# Altium footprint library Wireless_Security_Detector.PcbLib: 36 footprints (part 1 of 3)
Each footprint in its own frame and in the unit in brackets; x right, y up, seen from the top. Pads: shape width x height; smd on the part's side, far side on the other; paste and mask are expansions set on the pad; w line width, h text height; cw(c..) or ccw(c..) is an arc to the next point about the centre after c.
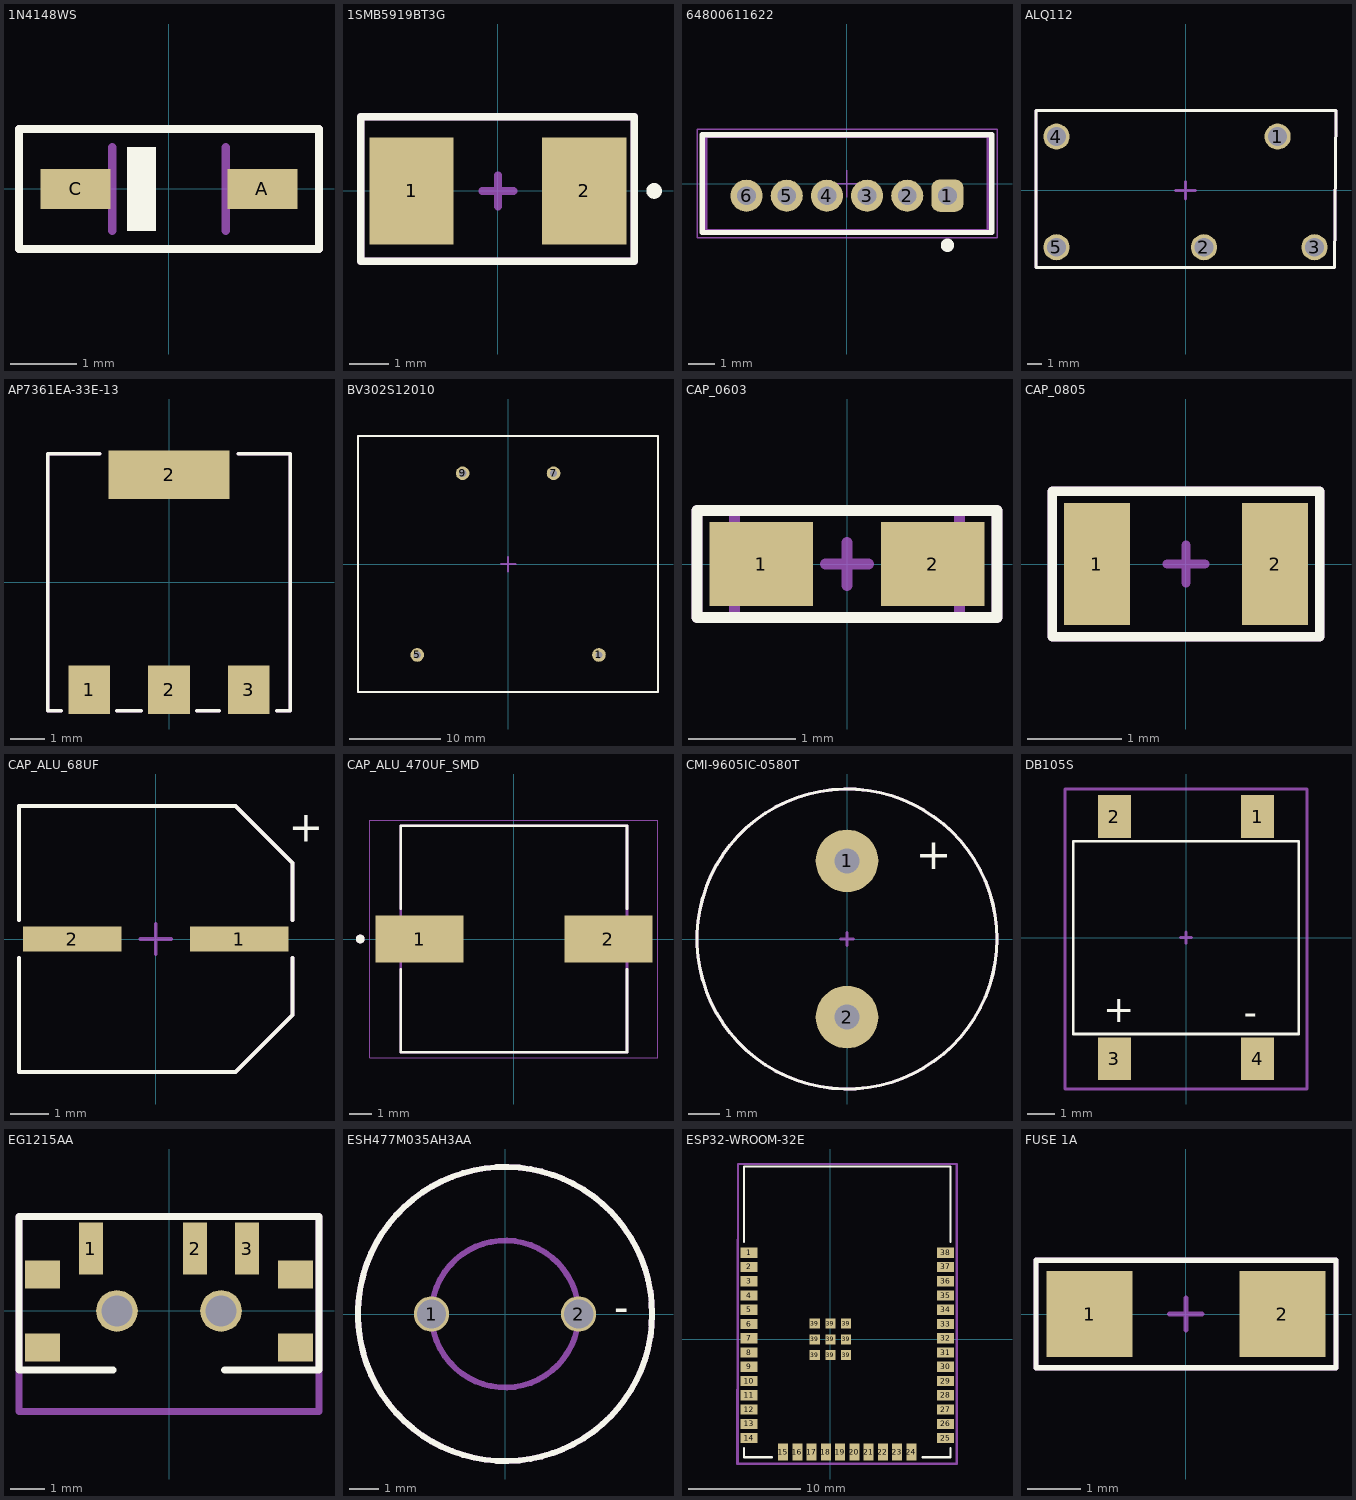
[diagram p0: the footprints below, top view; thin cyan lines are the x and y axes]

## 1N4148WS [mm]
pads (2):
  rect 1.05x0.6 smd: A(1.4,0) C(-1.4,0)
Top Overlay:
  region: -0.2,-0.625 -0.625,-0.625 -0.625,0.625 -0.2,0.625
  lines w0.127: -2.25,-0.9 -2.25,0.9 2.25,0.9 2.25,-0.9 -2.25,-0.9
Top 3D Body:
  lines w0.127: -2.25,-0.9 -2.25,0.9 2.25,0.9 2.25,-0.9 -2.25,-0.9
Top Designator:
  lines w0.127: -2.25,-0.9 -2.25,0.9 2.25,0.9 2.25,-0.9 -2.25,-0.9
  text ".Designator" at 0.433,-0.7 h0.8
Mechanical 13:
  lines w0.127: -0.85,-0.625 -0.85,0.625 ; 0.85,-0.625 0.85,0.625
3D body "step_temp.STEP": height 1.1, standoff 0.1, extent -1.25,-0.625 1.25,0.625

## 1SMB5919BT3G [mm]
pads (2):
  rect 2.159x2.743 smd mask+0.05: 1(-2.21,0) 2(2.21,0)
Top Overlay:
  circle w0.2: c4,0 r0.1
  lines w0.2: -3.51,-1.8 -3.51,1.9 3.49,1.9 3.49,-1.8 -3.51,-1.8
Top 3D Body:
  lines w0.2: -3.51,-1.8 -3.51,1.9 3.49,1.9 3.49,-1.8 -3.51,-1.8
Top Component Center:
  lines w0.2: -0.4,0 0.4,0 ; 0,-0.4 0,0.4
Top Designator:
  lines w0.2: -3.51,-1.8 -3.51,1.9 3.49,1.9 3.49,-1.8 -3.51,-1.8
  text ".Designator" at 0.333,-0.9 h0.8
3D body "1SMB5919BT3G.STEP": height 2.39, standoff -0.08, extent -2.73,-1.66 2.71,1.9

## 64800611622 [mm]
pads (6):
  rrect50% 1.2x1.2 hole 0.7: 1(3.75,-0.45)
  round 1.2 hole 0.7: 2(2.25,-0.45) 3(0.75,-0.45) 4(-0.75,-0.45) 5(-2.25,-0.45) 6(-3.75,-0.45)
Top Overlay:
  circle w0.25: c3.75,-2.3 r0.125
  lines w0.2: -5.4,-1.825 -5.4,1.825 5.4,1.825 5.4,-1.825 -5.4,-1.825
Top Component Center:
  lines w0.05: -0.5,0 0.5,0 ; 0,-0.5 0,0.5
Top Designator:
  text ".Designator" at -4.698,0.367 h1
Top Courtyard:
  lines w0.05: -5.6,-2.025 5.6,-2.025 5.6,2.025 -5.6,2.025 -5.6,-2.025
Top Component Outline:
  lines w0.1: -5.25,-1.75 5.25,-1.75 5.25,1.75 -5.25,1.75 -5.25,-1.75
3D body "64800611622.stp": height 4.53, standoff -2.67, extent -5.25,-1.75 5.25,1.75

## ALQ112 [mm]
pads (5):
  round 1.8 hole 1.3 mask+0.05: 1(6.35,3.71) 2(1.27,-3.91) 3(8.89,-3.91) 4(-8.89,3.71) 5(-8.89,-3.91)
Top Overlay:
  lines w0.2: -10.3,-5.3 -10.3,5.5 10.369,5.5 10.269,-5.3 -10.3,-5.3
Top 3D Body:
  lines w0.2: -10.3,-5.3 10.269,-5.3 10.369,5.5 -10.3,5.5 -10.3,-5.3
Top Component Center:
  lines w0.2: -0.7,0 0.7,0 ; 0,-0.6 0,0.6 ; -10.3,-5.3 10.269,-5.3 10.369,5.5 -10.3,5.5 -10.3,-5.3
Top Designator:
  lines w0.2: -10.3,-5.3 10.269,-5.3 10.369,5.5 -10.3,5.5 -10.3,-5.3
  text ".Designator" at -1.6,-0.233 h0.8
3D body "ALQ112--3DModel-STEP-56544.STEP": height 16, standoff -3.8, extent -10,-5 10,5

## AP7361EA-33E-13 [mm]
pads (4):
  rect 1.2x1.4 smd mask+0.05: 1(-2.3,-3.1) 2(0,-3.1) 3(2.3,-3.1)
  rect 3.5x1.4 smd mask+0.05: 2(0,3.1)
Top Overlay:
  lines w0.1: -3.1,-3.7 -3.5,-3.7 -3.5,3.7 -2,3.7 ; -1.5,-3.7 -0.8,-3.7 ; 0.8,-3.7 1.45,-3.7 ; 2,3.7 3.5,3.7 3.5,-3.7 3.1,-3.7
Top 3D Body:
  lines w0.1: -3.1,-3.7 -3.5,-3.7 -3.5,3.7 -2,3.7 ; -1.5,-3.7 -0.8,-3.7 ; 0.8,-3.7 1.45,-3.7 ; 2,3.7 3.5,3.7 3.5,-3.7 3.1,-3.7
Top Component Center:
  lines w0.1: -3.1,-3.7 -3.5,-3.7 -3.5,3.7 -2,3.7 ; -1.5,-3.7 -0.8,-3.7 ; 0.8,-3.7 1.45,-3.7 ; 2,3.7 3.5,3.7 3.5,-3.7 3.1,-3.7
Top Designator:
  lines w0.1: -3.1,-3.7 -3.5,-3.7 -3.5,3.7 -2,3.7 ; -1.5,-3.7 -0.8,-3.7 ; 0.8,-3.7 1.45,-3.7 ; 2,3.7 3.5,3.7 3.5,-3.7 3.1,-3.7
  text ".Designator" at -1.6,-0.733 h0.8
3D body "CircuitWorks-SOT-223.step": height 1.65, standoff -0.03, extent -3.25,-3.48 3.25,3.48

## BV302S12010 [mm]
pads (4):
  round 1.5 hole 0.8 mask+0.05: 1(10,-10) 5(-10,-10) 7(5,10) 9(-5,10)
Top Overlay:
  lines w0.2: -16.522,-14.078 -16.522,14.1 16.5,14.1 16.5,-14.078 -16.522,-14.078
Top 3D Body:
  lines w0.2: -16.522,-14.078 16.5,-14.078 16.5,14.1 -16.522,14.1 -16.522,-14.078
Top Component Center:
  lines w0.2: -0.8,0 0.8,0 ; 0,-0.8 0,0.8 ; -16.522,-14.078 -16.522,14.1 16.5,14.1 16.5,-14.078 -16.522,-14.078
Top Designator:
  lines w0.2: -16.522,-14.078 16.5,-14.078 16.5,14.1 -16.522,14.1 -16.522,-14.078
  text ".Designator" at -2.9,-2.133 h0.8
3D body "User Library-Hahn BV EI 302 2902.step": height 21.8, standoff -4.5, extent -16.25,-13.75 16.25,13.75

## CAP_0603 [mil]
pads (2):
  rect 38x31 smd mask+1.97: 1(-31.5,0) 2(31.5,0)
Top Overlay:
  lines w3.94: -55.12,-19.68 55.12,-19.68 55.12,19.68 -55.12,19.68 -55.12,-19.68
Top 3D Body:
  lines w3.94: -41.34,-19.68 -41.34,19.68 41.34,19.68 41.34,-19.68 -41.34,-19.68
Top Component Center:
  lines w3.94: -7.87,0 7.87,0 ; 0,-7.87 0,7.87 ; -55.12,-19.68 -55.12,19.68 55.12,19.68 55.12,-19.68 -55.12,-19.68
Top Designator:
  lines w3.94: -55.12,-19.68 -55.12,19.68 55.12,19.68 55.12,-19.68 -55.12,-19.68
  text ".Designator" at 6.56,-98.39 h19.68
3D body "CAPC0603.STEP": height 31.5, standoff 0, extent -41.35,-19.68 41.35,20.82

## CAP_0805 [mm]
pads (2):
  rect 0.7x1.3 smd mask+0.05: 1(-0.95,0) 2(0.95,0)
Top Overlay:
  lines w0.1: -1.425,-0.775 1.425,-0.775 1.425,0.775 -1.425,0.775 -1.425,-0.775
Top 3D Body:
  lines w0.1: -1.425,-0.775 1.425,-0.775 1.425,0.775 -1.425,0.775 -1.425,-0.775
Top Component Center:
  lines w0.1: -0.2,0 0.2,0 ; 0,-0.2 0,0.2
Top Designator:
  lines w0.1: -1.425,-0.775 1.425,-0.775 1.425,0.775 -1.425,0.775 -1.425,-0.775
  text ".Designator" at 0.233,-0.6 h0.5
3D body "GCM2165C2A151JA16D.STEP": height 1.22, standoff -0.03, extent -1,-0.725 1,0.725

## CAP_ALU_68UF [mm]
pads (2):
  rect 2.6x0.65 smd mask+0.05: 1(2.2,0) 2(-2.2,0)
Top Overlay:
  lines w0.1: -3.6,-0.5 -3.6,-3.5 2.1,-3.5 3.6,-2 3.6,-0.5 ; -3.6,0.5 -3.6,3.5 2.1,3.5 3.6,2 3.6,0.5
  text "+" at 3.5,2.567 h0.8
Top 3D Body:
  lines w0.1: -3.6,-0.5 -3.6,-3.5 2.1,-3.5 3.6,-2 3.6,-0.5 ; -3.6,0.5 -3.6,3.5 2.1,3.5 3.6,2 3.6,0.5
Top Component Center:
  lines w0.1: -3.6,-0.5 -3.6,-3.5 2.1,-3.5 3.6,-2 3.6,-0.5 ; -3.6,0.5 -3.6,3.5 2.1,3.5 3.6,2 3.6,0.5 ; -0.4,0 0.4,0 ; 0,-0.4 0,0.4
Top Designator:
  lines w0.1: -3.6,-0.5 -3.6,-3.5 2.1,-3.5 3.6,-2 3.6,-0.5 ; -3.6,0.5 -3.6,3.5 2.1,3.5 3.6,2 3.6,0.5
  text ".Designator" at -1,-1.833 h0.8
3D body "EEV686M035A9HAA.step": height 7.71, standoff -0.3, extent -3.8,-3.4 3.8,3.4

## CAP_ALU_470UF_SMD [mm]
pads (2):
  rect 4.01x2.12 smd: 1(-4.3,0) 2(4.3,0)
Top Overlay:
  circle w0.2: c-7,0 r0.1
  lines w0.127: -5.15,-1.38 -5.15,-5.15 5.15,-5.15 5.15,-1.38 ; -5.15,1.38 -5.15,5.15 5.15,5.15 5.15,1.38
Top Designator:
  lines w0.05: -6.555,-5.4 6.555,-5.4 6.555,5.4 -6.555,5.4 -6.555,-5.4
  text ".Designator" at -1,-0.167 h0.4
Mechanical 13:
  circle w0.2: c-7,0 r0.1
  lines w0.127: -5.15,-5.15 -5.15,5.15 5.15,5.15 5.15,-5.15 -5.15,-5.15
3D body "CAP_PC_10X12P7_NCH.step": height 12.75, standoff 0, extent -5.601,-5.156 5.601,5.156

## CMI-9605IC-0580T [mm]
pads (2):
  round 2 hole 0.8 mask+0.05: 1(0,2.5) 2(0,-2.5)
Top Overlay:
  circle w0.1: c0,0 r4.8
  text "+" at 2.2,2.233 h1
Top Component Center:
  circle w0.1: c0,0 r4.8
  lines w0.1: -0.2,0 0.2,0 ; 0,-0.2 0,0.2
Top Designator:
  circle w0.1: c0,0 r4.8
  text ".Designator" at -2.4,-0.167 h1
3D body: height 5.1, standoff 0.1, extent -4.8,-4.8 4.8,4.8
3D body: height 5.16, standoff 5.11, extent -4,-4 4,4
3D body: height 5.16, standoff 5.11, extent -2,2 2,6
3D body: height 1.65, standoff -3.85, extent -0.3,-2.8 0.3,-2.2
3D body: height 0.15, standoff -5.35, extent -0.3,2.2 0.3,2.8

## DB105S [mm]
pads (4):
  rect 1.2x1.55 smd mask+0.05: 1(2.605,4.4) 2(-2.605,4.4) 3(-2.605,-4.4) 4(2.605,-4.4)
Top Overlay:
  lines w0.1: -4.1,-3.5 -4.1,3.5 4.1,3.5 4.1,-3.5 -4.1,-3.5
  text "+" at -3,-3.067 h1
  text "-" at 2.1,-3.2 h1
Top 3D Body:
  lines w0.1: -4.4,-5.5 -4.4,5.4 4.4,5.4 4.4,-5.5 -4.4,-5.5
Top Component Center:
  lines w0.1: -0.2,0 0.2,0 ; 0,-0.2 0,0.2 ; -4.4,-5.5 -4.4,5.4 ; -4.4,-5.5 4.4,-5.5 ; -4.4,-5.5 4.4,-5.5 ; -4.4,-5.5 -4.4,5.4 ; -4.4,5.4 4.4,5.4 ; -4.4,5.4 4.4,5.4 ; 4.4,-5.5 4.4,5.4 ; 4.4,-5.5 4.4,5.4
Top Designator:
  lines w0.1: -4.4,-5.5 -4.4,5.4 4.4,5.4 4.4,-5.5 -4.4,-5.5
  text ".Designator" at -2.2,0.533 h1
3D body "User Library-DB107S  DB-S.step": height 2.66, standoff 0, extent -4.16,-5.2 4.16,5.2

## EG1215AA [mm]
pads (9):
  rect 0.7x1.5 smd mask+0.05: 1(-2.25,1.8) 2(0.75,1.8) 3(2.25,1.8)
  rect 1x0.8 smd mask+0.05: ""(-3.65,-1.05) ""(-3.65,1.05) ""(3.65,-1.05) ""(3.65,1.05)
  round 1.2 hole 0.9 mask+0.05: ""(-1.5,0) ""(1.5,0)
Top Overlay:
  lines w0.2: -1.607,-1.7 -4.325,-1.7 -4.325,2.725 4.325,2.725 4.325,-1.7 ; 1.6,-1.7 4.318,-1.7
Top 3D Body:
  lines w0.2: -4.325,-2.9 4.325,-2.9 4.325,2.725 -4.325,2.725 -4.325,-2.9
Top Designator:
  lines w0.2: -4.325,-2.9 -4.325,2.725 4.325,2.725 4.325,-2.9 -4.325,-2.9
  text ".Designator" at -1.2,-1.833 h0.8
3D body "EG1215AA--3DModel-STEP-1.STEP": height 1.4, standoff -0.3, extent -3.85,-2.7 3.85,2.2

## ESH477M035AH3AA [mm]
pads (2):
  round 1.2 hole 1 mask+0.05: 1(-2.5,0) 2(2.5,0)
Top Overlay:
  circle w0.2: c0,0 r5
  text "-" at 4.2,0.5 h1
Top 3D Body:
  circle w0.2: c0,0 r5
Top Designator:
  circle w0.2: c0,0 r2.5
  circle w0.2: c0,0 r5
  text ".Designator" at -1,-1.333 h0.8
3D body "ESH477M050AL3AA.step": height 25, standoff -17, extent -6.75,-6.75 6.75,6.75

## ESP32-WROOM-32E [mm]
pads (47):
  rect 1.5x0.9 smd mask+0.05: 1(-7.25,7.72) 2(-7.25,6.45) 3(-7.25,5.18) 4(-7.25,3.91) 5(-7.25,2.64) 6(-7.25,1.37) 7(-7.25,0.1) 8(-7.25,-1.17) 9(-7.25,-2.44) 10(-7.25,-3.71) 11(-7.25,-4.98) 12(-7.25,-6.25) 13(-7.25,-7.52) 14(-7.25,-8.79) 25(10.25,-8.79) 26(10.25,-7.52) 27(10.25,-6.25) 28(10.25,-4.98) 29(10.25,-3.71) 30(10.25,-2.44) 31(10.25,-1.17) 32(10.25,0.1) 33(10.25,1.37) 34(10.25,2.64) 35(10.25,3.91) 36(10.25,5.18) 37(10.25,6.45) 38(10.25,7.72)
  rect 0.9x1.5 smd mask+0.05: 15(-4.215,-10.04) 16(-2.945,-10.04) 17(-1.675,-10.04) 18(-0.405,-10.04) 19(0.865,-10.04) 20(2.135,-10.04) 21(3.405,-10.04) 22(4.675,-10.04) 23(5.945,-10.04) 24(7.215,-10.04)
  rect 0.9x0.9 smd mask+0.05: 39(-1.4,-1.4) 39(-1.4,0) 39(-1.4,1.4) 39(0,-1.4) 39(0,0) 39(0,1.4) 39(1.4,-1.4) 39(1.4,0) 39(1.4,1.4)
Top Overlay:
  lines w0.2: -7.7,-9.7 -7.7,-10.5 -5.2,-10.5 ; -7.7,8.7 -7.7,15.4 ; -7.65,15.4 10.7,15.4 10.7,8.7 ; 8.2,-10.5 10.7,-10.5 10.7,-9.7
Top 3D Body:
  lines w0.2: -8.3,-11.1 -8.225,15.625 11.25,15.625 11.25,-11.075 -8.3,-11.1
Top Designator:
  lines w0.2: -8.225,-11.075 11.25,-11.075 11.25,15.625 -8.225,15.625 -8.225,-7.425 -8.225,-11.075
  text ".Designator" at -0.7,2.933 h1
3D body "ESP32-WROOM-32E-N4.STEP": height 3.25, standoff 0, extent -7.5,-10.3 10.5,15.2

## FUSE 1A [mm]
pads (2):
  rect 1.6x1.6 smd mask+0.05: 1(-1.8,0) 2(1.8,0)
Top Overlay:
  lines w0.1: -2.8,-1 -2.8,1 2.8,1 2.8,-1 -2.8,-1
Top 3D Body:
  lines w0.1: -2.8,-1 -2.8,1 2.8,1 2.8,-1 -2.8,-1
Top Component Center:
  lines w0.1: -0.3,0 0.3,0 ; 0,-0.3 0,0.3 ; -2.8,-1 -2.8,1 2.8,1 2.8,-1 -2.8,-1
Top Designator:
  lines w0.1: -2.8,-1 -2.8,1 2.8,1 2.8,-1 -2.8,-1
  text ".Designator" at -0.7,-0.733 h0.5
3D body "3413.0216.22.STEP": height 0.6, standoff 0, extent -1.6,-0.8 1.6,0.8